# EAGLE library part TRHEI662-2X15 (library transformatory)
Transformátor 2x15V
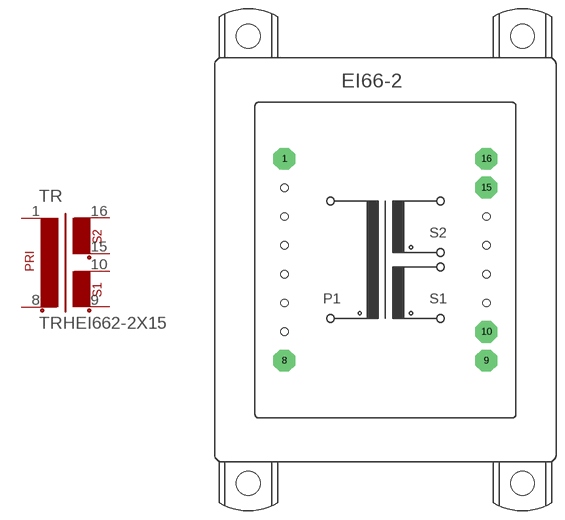
[diagram p57: symbol with the pads of EI66-2; footprint EI66-2]

Designator prefix TR

## TRHEI662-2X15  [EI66-2]
1  1  pas
8  2  pas
9  3  pas
10  4  pas
15  5  pas
16  6  pas

## Footprint EI66-2 (pad centres in mm)
TRANSFORMER 1 primary winding, 2 secondary windings, mounting holes
drill 1.194 pad 3.81 octagon: 1 -17.501,17.501; 8 -17.501,-17.501; 9 17.501,-17.501; 10 17.501,-12.497; 15 17.501,12.497; 16 17.501,17.501
hole 4.115 at -23.749,-38.76
hole 4.115 at -23.749,38.76
hole 4.115 at 23.749,-38.76
hole 4.115 at 23.749,38.76
hole 1.27 at -17.5,12.5
hole 1.27 at -17.5,-12.5
hole 1.27 at -17.5,-7.5
hole 1.27 at -17.5,-2.5
hole 1.27 at -17.5,2.5
hole 1.27 at -17.5,7.5
hole 1.27 at 17.5,7.5
hole 1.27 at 17.5,2.5
hole 1.27 at 17.5,-2.5
hole 1.27 at 17.5,-7.5